# Altium schematic symbol library COMM_SCHLIB.SchLib: 31 symbols
Pins are listed as number, name and electrical type; pins without a type are passive.

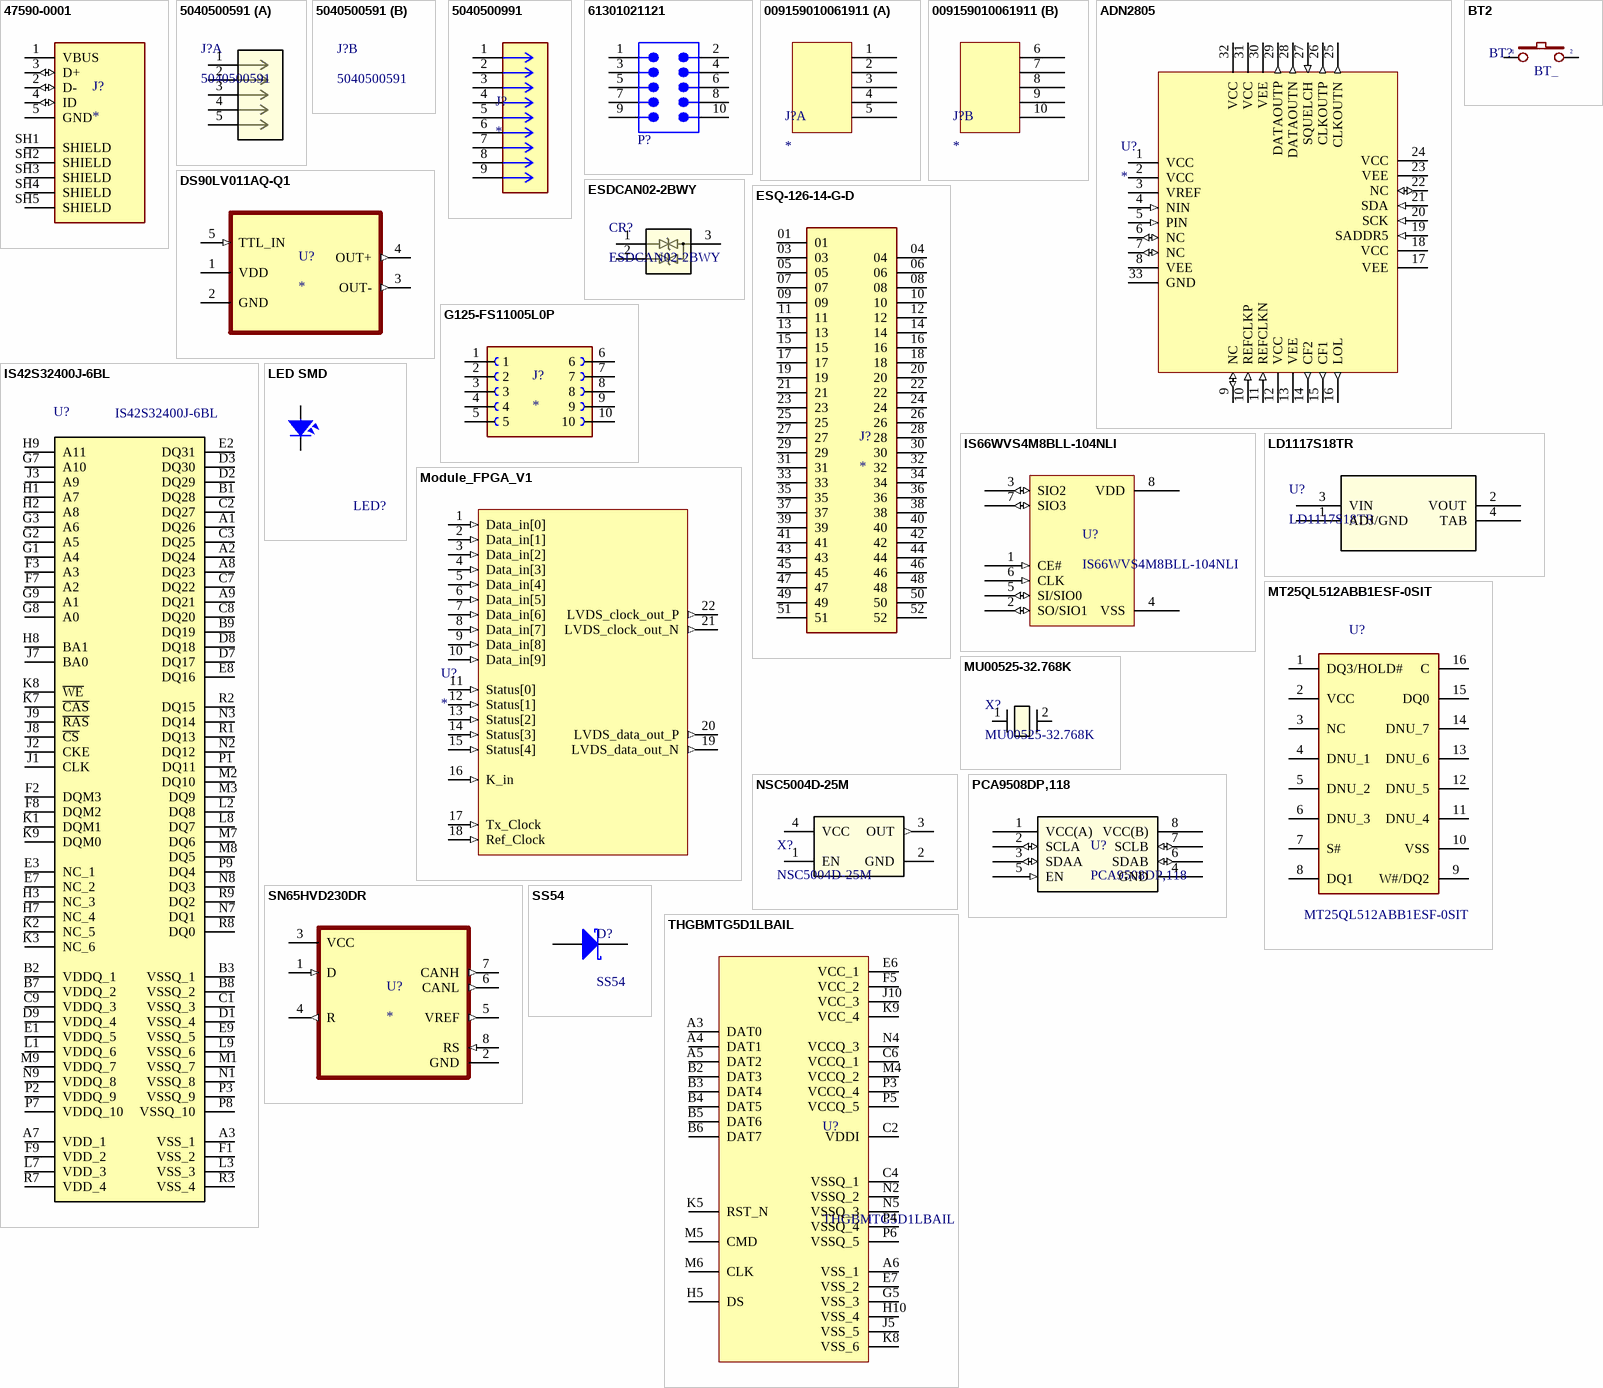
[diagram p0: symbols 47590-0001 to THGBMTG5D1LBAIL]

## 47590-0001
designator J?
RightAngle SMT TypeABVersion 2.0 Micro USB Conn Skt,30Vac,1.8A 47650 MICRO-USB | Molex Incorporated 47590-0001; SnapEDA_Link: https://www.snapeda.com/parts/47590-0001/Molex/view-part/?ref=snap; Package: None; Value: *; MF: Molex; MP: 47590-0001; Check_prices: https://www.snapeda.com/parts/47590-0001/Molex/view-part/?ref=eda
footprint MOLEX_47590-0001
pins: 1 VBUS (power), 2 D- (io), 3 D+ (io), 4 ID (io), 5 GND (power), SH1 SHIELD, SH2 SHIELD, SH3 SHIELD, SH4 SHIELD, SH5 SHIELD

## 5040500591
designator J?
1.50mm Pitch, Pico-Lock PCB Header, Single Row, Right-Angle, Surface Mount, Gold (Au) Plating, Positive Lock, 5 Circuits, Tape and Reel; Manufacturer_Name: Molex Connector Corporation; Copyright: Copyright (C) 2025 Ultra Librarian. All rights reserved.; Manufacturer_Part_Number: 5040500591; RefDes: RefDes; Type: Type
footprint CONN_5040500591_MOL
part A pins: 1, 2, 3, 4, 5

## 5040500991
designator J?
Connector Header Surface Mount, Right Angle 9 position 0.059" (1.50mm)
footprint 5040500991
pins: 1, 2, 3, 4, 5, 6, 7, 8, 9

## 61301021121
designator P?  (value not drawn)
WR-PHD Pin Header, THT, Vertical, pitch 2.54mm, 2 Row, 10P; Manufacturer: Wurth Elektronik; Contact Resistance: 20mOhm; Rated Current: 3A; Working Voltage: 250V; Withstanding Voltage: 500V; Manufacturer Part Number: 61301021121; Category: Board-to-Board Connectors; Match Code: WR-PHD; ComponentLink1Description: Website Link; ComponentLink1URL: https://www.we-online.com/redexpert/article/61301021121?ad; ComponentLink2Description: Datasheet Link; ComponentLink2URL: https://www.we-online.com/redexpert/spec/61301021121?ad; Mount: Through Hole; Operating Temperature Max: 105°C; Operating Temperature Min: -40°C; Packaging: Bag; Gender: Pin Header; Number of Pins: 10; Number of Rows: 2; Orientation: Vertical; Pitch: 2.54mm
footprint 61301021121
pins: 1, 2, 3, 4, 5, 6, 7, 8, 9, 10

## 009159010061911
designator J?
pads for STLink V3 minie
footprint 009159010061911
part A pins: 1, 2, 3, 4, 5
part B pins: 6, 7, 8, 9, 10

## ADN2805
designator U?
1.25 Gbps Clock and Data Recovery IC
footprint ADN2805
pins: 1 VCC (power), 2 VCC (power), 3 VREF (power), 4 NIN (in), 5 PIN (in), 6 NC (io), 7 NC (io), 8 VEE (power), 9 NC (io), 10 REFCLKP (in), 11 REFCLKN (in), 12 VCC (power), 13 VEE (power), 14 CF2 (out), 15 CF1 (out), 16 LOL (out), 17 VEE (power), 18 VCC (power), 19 SADDR5 (in), 20 SCK (in), 21 SDA (in), 22 NC (io), 23 VEE (power), 24 VCC (power), 25 CLKOUTN (out), 26 CLKOUTP (out), 27 SQUELCH (in), 28 DATAOUTN (out), 29 DATAOUTP (out), 30 VEE (power), 31 VCC (power), 32 VCC (power), 33 GND (power)

## BT2
designator BT?, comment BT_
Switch button 2 pin; Value: SW chip 2 pin
footprint SW2-SMD
pins: 1, 2

## DS90LV011AQ-Q1
designator U?
Automotive LVDS Differential Driver
footprint DS90LV011AQ-Q1
pins: 1 VDD (power), 2 GND (power), 3 OUT- (out), 4 OUT+ (out), 5 TTL_IN (in)

## ESDCAN02-2BWY
designator CR?
Automotive dual-line TVS in SOT323-3L for CAN bus (12 V system); Manufacturer_Name: STMicroelectronics; Copyright: Copyright (C) 2025 Ultra Librarian. All rights reserved.; Manufacturer_Part_Number: ESDCAN02-2BWY; RefDes: RefDes; Type: Type
footprint SOT323-3L_STM
pins: 1, 2, 3

## ESQ-126-14-G-D
designator J?
PC / 104 Connectors Elevated Socket Strip
footprint ESQ-126-14-G-D
pins: 01, 03, 04, 05, 06, 07, 08, 09, 10, 11, 12, 13, 14, 15, 16, 17, 18, 19, 20, 21, 22, 23, 24, 25, 26, 27, 28, 29, 30, 31, 32, 33, 34, 35, 36, 37, 38, 39, 40, 41, 42, 43, 44, 45, 46, 47, 48, 49, 50, 51, 52

## G125-FS11005L0P
designator J?
Header 10p
footprint G125-FS11005L0P
pins: 1, 2, 3, 4, 5, 6, 7, 8, 9, 10

## IS42S32400J-6BL
designator U?
DRAM 128M, 3.3V, SDRAM, 4Mx32, 166Mhz, 90 ball BGA (8mmx13mm) RoHS; Manufacturer_Name: Integrated Silicon Solution Inc.; Geometry.Height: 1.2mm; Manufacturer_Part_Number: IS42S32400J-6BL; Mouser Part Number: *; Mouser Price/Stock: *; Arrow Part Number: IS42S32400J-6BL; Arrow Price/Stock: https://www.arrow.com/en/products/is42s32400j-6bl/integrated-silicon-solution-inc?utm_currency=USD&region=nac; Datasheet Link: https://www.issi.com/WW/pdf/42-45S32400J.pdf
footprint BGA90C80P9X15_800X1300X120
pins: A1 DQ26, A2 DQ24, A3 VSS_1, A7 VDD_1, A8 DQ23, A9 DQ21, B1 DQ28, B2 VDDQ_1, B3 VSSQ_1, B7 VDDQ_2, B8 VSSQ_2, B9 DQ19, C1 VSSQ_3, C2 DQ27, C3 DQ25, C7 DQ22, C8 DQ20, C9 VDDQ_3, D1 VSSQ_4, D2 DQ29, D3 DQ30, D7 DQ17, D8 DQ18, D9 VDDQ_4, E1 VDDQ_5, E2 DQ31, E3 NC_1, E7 NC_2, E8 DQ16, E9 VSSQ_5, F1 VSS_2, F2 DQM3, F3 A3, F7 A2, F8 DQM2, F9 VDD_2, G1 A4, G2 A5, G3 A6, G7 A10, G8 A0, G9 A1, H1 A7, H2 A8, H3 NC_3, H7 NC_4, H8 BA1, H9 A11, J1 CLK, J2 CKE, J3 A9, J7 BA0, J8 ~{CS}, J9 ~{RAS}, K1 DQM1, K2 NC_5, K3 NC_6, K7 ~{CAS}, K8 ~{WE}, K9 DQM0, L1 VDDQ_6, L2 DQ8, L3 VSS_3, L7 VDD_3, L8 DQ7, L9 VSSQ_6, M1 VSSQ_7, M2 DQ10, M3 DQ9, M7 DQ6, M8 DQ5, M9 VDDQ_7, N1 VSSQ_8, N2 DQ12, N3 DQ14, N7 DQ1, N8 DQ3, N9 VDDQ_8, P1 DQ11, P2 VDDQ_9, P3 VSSQ_9, P7 VDDQ_10, P8 VSSQ_10, P9 DQ4, R1 DQ13, R2 DQ15, R3 VSS_4, R7 VDD_4, R8 DQ0, R9 DQ2

## IS66WVS4M8BLL-104NLI
designator U?
No Description Available; Manufacturer_Name: ISSI; Type: Memory; Copyright: Copyright (C) 2025 Ultra Librarian. All rights reserved.; Manufacturer_Part_Number: IS66WVS4M8BLL-104NLI; RefDes: RefDes
footprint SOIC8_150MIL_N_ISI
pins: 1 CE# (in), 2 SO/SIO1 (io), 3 SIO2 (io), 4 VSS (power), 5 SI/SIO0 (io), 6 CLK (in), 7 SIO3 (io), 8 VDD (power)

## LD1117S18TR
designator U?
Adjustable and fixed low drop positive voltage regulator; Manufacturer_Name: STMicroelectronics; Copyright: Copyright (C) 2025 Ultra Librarian. All rights reserved.; Manufacturer_Part_Number: LD1117S18TR; Datasheet: https://www.st.com/resource/en/datasheet/ld1117.pdf; RefDes: RefDes; Type: Type
footprint SOT-223_STM
pins: 1 ADJ/GND (power), 2 VOUT (power), 3 VIN (power), 4 TAB (power)

## LED SMD
designator LED?, comment LED  (value not drawn)
Value: LED 3 - 5 ly 2 Colour
footprint LED_C_2012X65_RED (Chip Resistor, 2-Leads, Body 2.00x1.25mm, IPC High Density)
footprint LED_C_2012X65_GREEN (Chip Resistor, 2-Leads, Body 2.00x1.25mm, IPC High Density)
footprint LED_C_2012X65_BLUE (Chip Resistor, 2-Leads, Body 2.00x1.25mm, IPC High Density)
footprint LED_0603
pins: 1, 2

## Module_FPGA_V1
designator U?
footprint MODULE_FPGA
pins: 1 Data_in[0] (in), 2 Data_in[1] (in), 3 Data_in[2] (in), 4 Data_in[3] (in), 5 Data_in[4] (in), 6 Data_in[5] (in), 7 Data_in[6] (in), 8 Data_in[7] (in), 9 Data_in[8] (in), 10 Data_in[9] (in), 11 Status[0] (in), 12 Status[1] (in), 13 Status[2] (in), 14 Status[3] (in), 15 Status[4] (in), 16 K_in (in), 17 Tx_Clock (in), 18 Ref_Clock (in), 19 LVDS_data_out_N (out), 20 LVDS_data_out_P (out), 21 LVDS_clock_out_N (out), 22 LVDS_clock_out_P (out)

## MT25QL512ABB1ESF-0SIT
designator U?
IC FLASH 512MBIT 133MHZ 16SO; Manufacturer_Name: Micron; Manufacturer_Part_Number: MT25QL512ABB8ESF-0SIT; Geometry.Height: 2.65mm; Mouser Part Number: 340-278183-TRAY; Mouser Price/Stock: https://www.mouser.co.uk/ProductDetail/Micron/MT25QL512ABB8ESF-0SIT?qs=rrS6PyfT74e8sADX0P8kAw%3D%3D; Arrow Part Number: MT25QL512ABB8ESF-0SIT; Arrow Price/Stock: https://www.arrow.com/en/products/mt25ql512abb8esf-0sit/micron-technology?utm_currency=USD&region=nac; Datasheet Link: https://datasheet.datasheetarchive.com/originals/distributors/DKDS42/DSANUWW0045437.pdf
footprint SOIC127P1032X265-16N
pins: 1 DQ3/HOLD#, 2 VCC, 3 NC, 4 DNU_1, 5 DNU_2, 6 DNU_3, 7 S#, 8 DQ1, 9 W#/DQ2, 10 VSS, 11 DNU_4, 12 DNU_5, 13 DNU_6, 14 DNU_7, 15 DQ0, 16 C

## MU00525-32.768K
designator X?
32.768 kHz ±20ppm Crystal 12.5pF 70 kOhms 2-SMD, No Lead; Manufacturer_Name: NDK; Type: Crystals; Copyright: Copyright (C) 2025 Ultra Librarian. All rights reserved.; Manufacturer_Part_Number: MU00525-32.768K
footprint XTAL_MU00525_NDK
pins: 1, 2

## NSC5004D-25M
designator X?
25 MHz XO (Standard) CMOS Oscillator 3.3V Standby (Power Down) 4-SMD, No Lead; Manufacturer_Name: NDK; Manufacturer_Part_Number: NSC5004A-25M; Type: Oscillators; Copyright: Copyright (C) 2025 Ultra Librarian. All rights reserved.; RefDes: RefDes
footprint NSC5004D-25M (25 MHz XO (Standard) CMOS Oscillator 3.3V Standby (Power Down) 4-SMD, No Lead)
pins: 1 EN, 2 GND (power), 3 OUT (out), 4 VCC (power)

## PCA9508DP,118
designator U?
IC REDRIVER I2C HOTSWAP 8TSSOP; Manufacturer_Name: NXP; Copyright: Copyright (C) 2025 Ultra Librarian. All rights reserved.; Manufacturer_Part_Number: PCA9508DP,118; RefDes: RefDes; Type: Type
footprint TSSOP8_SOT505-1_NXP
pins: 1 VCC(A) (power), 2 SCLA (io), 3 SDAA (io), 4 GND (power), 5 EN (in), 6 SDAB (io), 7 SCLB (io), 8 VCC(B) (power)

## SN65HVD230DR
designator U?
3.3 V CAN Transceiver with Standby Mode; MF: Texas Instruments; MP: SN65HVD230DR; SnapEDA_Link: https://www.snapeda.com/parts/SN65HVD230DR/Texas+Instruments/view-part/?ref=snap; Package: SOIC-8 Texas Instruments; Value: *; Check_prices: https://www.snapeda.com/parts/SN65HVD230DR/Texas+Instruments/view-part/?ref=eda
footprint SOIC127P599X175-8N
pins: 1 D (in), 2 GND (power), 3 VCC (power), 4 R (out), 5 VREF (out), 6 CANL (out), 7 CANH (out), 8 RS (in)

## SS54
designator D?
DIODE SCHOTTKY 40V 5A SMA; MPN: SS34; Solder: SMT; Value: SS34; MFR: *
footprint DO-214AC_SMA (Molded Diode, 2-Leads, Body 5.20x2.61mm, IPC Medium Density)
pins: 1 A, 2 K

## THGBMTG5D1LBAIL
designator U?
NAND Flash Serial e-MMC 3.3V 32G-bit 32G/8G/4G x 1/4-bit/8-bit 13.7ns 153-Pin WFBGA; Manufacturer_Name: KIOXIA Corporation; Geometry.Height: 0.8mm; Manufacturer_Part_Number: THGBMTG5D1LBAIL; Mouser Part Number: 757-THGBMTG5D1LBAIL; Mouser Price/Stock: https://www.mouser.co.uk/ProductDetail/Kioxia-America/THGBMTG5D1LBAIL?qs=Znm5pLBrcAKPRFVhV%252B0AbQ%3D%3D; Arrow Part Number: THGBMTG5D1LBAIL; Arrow Price/Stock: null?region=nac; Datasheet Link: https://static6.arrow.com/aropdfconversion/5b79d7e5222d5200711a0ed1082b7aa51b6d9eb4/xia_thgbmtg5d1lbail15nm4gbe-mmcver5.0_e_rev.1.0_20211007.pdf
footprint BGA153C50P14X14_1150X1300X80
pins: A3 DAT0, A4 DAT1, A5 DAT2, A6 VSS_1, B2 DAT3, B3 DAT4, B4 DAT5, B5 DAT6, B6 DAT7, C2 VDDI, C4 VSSQ_1, C6 VCCQ_1, E6 VCC_1, E7 VSS_2, F5 VCC_2, G5 VSS_3, H5 DS, H10 VSS_4, J5 VSS_5, J10 VCC_3, K5 RST_N, K8 VSS_6, K9 VCC_4, M4 VCCQ_2, M5 CMD, M6 CLK, N2 VSSQ_2, N4 VCCQ_3, N5 VSSQ_3, P3 VCCQ_4, P4 VSSQ_4, P5 VCCQ_5, P6 VSSQ_5

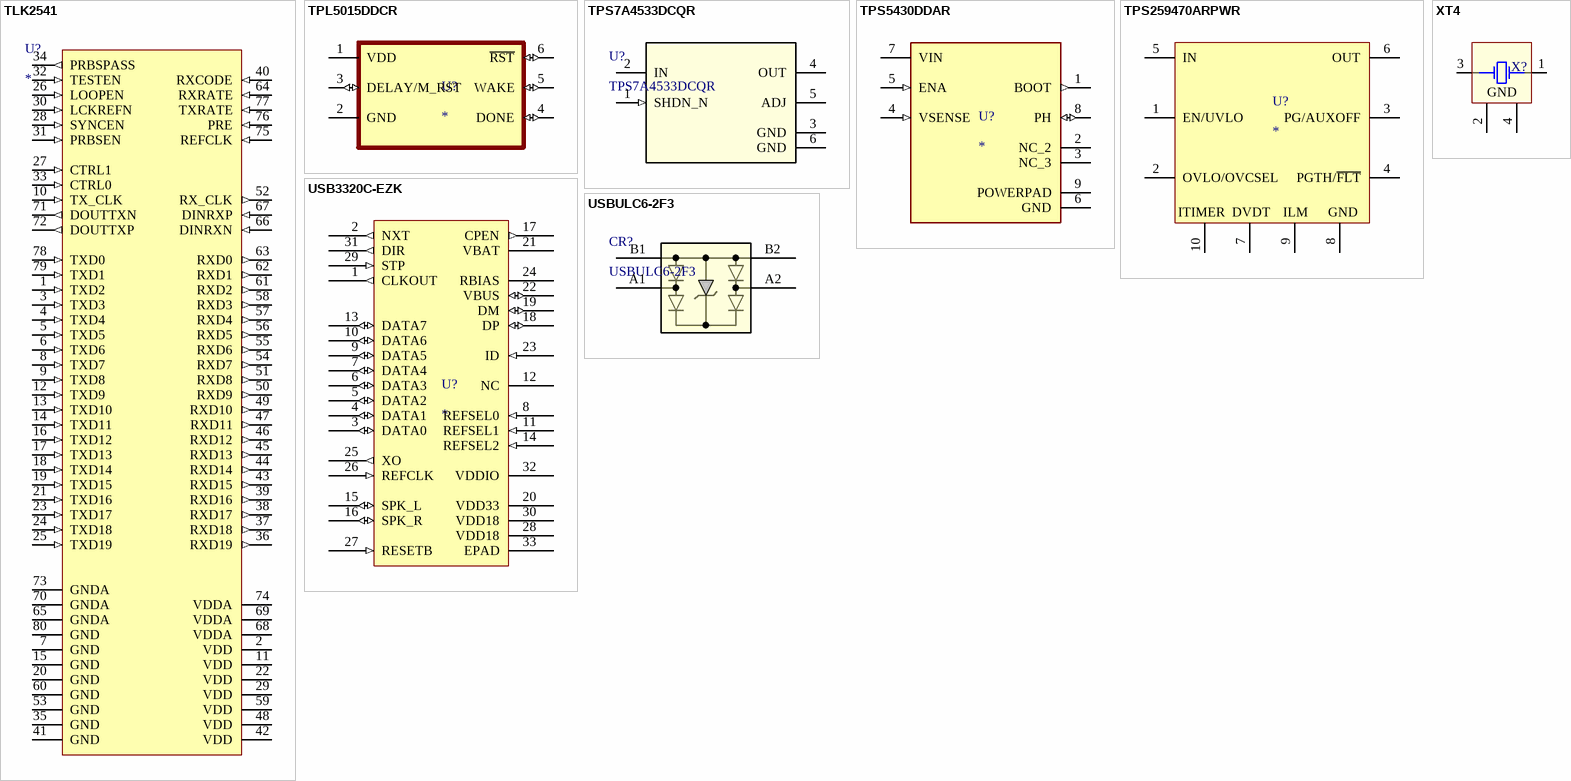
[diagram p1: symbols TLK2541 to XT4]

## TLK2541
designator U?
1 TO2.6 GBPS TRANSCEIVER
footprint TLK2541
pins: 1 TXD2 (in), 2 VDD (power), 3 TXD3 (in), 4 TXD4 (in), 5 TXD5 (in), 6 TXD6 (in), 7 GND (power), 8 TXD7 (in), 9 TXD8 (in), 10 TX_CLK (in), 11 VDD (power), 12 TXD9 (in), 13 TXD10 (in), 14 TXD11 (in), 15 GND (power), 16 TXD12 (in), 17 TXD13 (in), 18 TXD14 (in), 19 TXD15 (in), 20 GND (power), 21 TXD16 (in), 22 VDD (power), 23 TXD17 (in), 24 TXD18 (in), 25 TXD19 (in), 26 LOOPEN (in), 27 CTRL1 (in), 28 SYNCEN (in), 29 VDD (power), 30 LCKREFN (in), 31 PRBSEN (in), 32 TESTEN (in), 33 CTRL0 (in), 34 PRBSPASS (out), 35 GND (power), 36 RXD19 (out), 37 RXD18 (out), 38 RXD17 (out), 39 RXD16 (out), 40 RXCODE (in), 41 GND (power), 42 VDD (power), 43 RXD15 (out), 44 RXD14 (out), 45 RXD13 (out), 46 RXD12 (out), 47 RXD11 (out), 48 VDD (power), 49 RXD10 (out), 50 RXD9 (out), 51 RXD8 (out), 52 RX_CLK (out), 53 GND (power), 54 RXD7 (out), 55 RXD6 (out), 56 RXD5 (out), 57 RXD4 (out), 58 RXD3 (out), 59 VDD (power), 60 GND (power), 61 RXD2 (out), 62 RXD1 (out), 63 RXD0 (out), 64 RXRATE (in), 65 GNDA (power), 66 DINRXN (in), 67 DINRXP (in), 68 VDDA (power), 69 VDDA (power), 70 GNDA (power), 71 DOUTTXN (out), 72 DOUTTXP (out), 73 GNDA (power), 74 VDDA (power), 75 REFCLK (in), 76 PRE (in), 77 TXRATE (in), 78 TXD0 (in), 79 TXD1 (in), 80 GND (power)

## TPL5015DDCR
designator U?
OSC PROG TIMER TSOT23-6
footprint TPL5010DDCR
pins: 1 VDD (power), 2 GND (power), 3 DELAY/M_RST (io), 4 DONE (io), 5 WAKE (io), 6 ~{RST} (io)

## TPS7A4533DCQR
designator U?
1.5-A, 20-V, ultra-low-dropout voltage regulator with reverse current protection & enable 6-SOT-223 -40 to 125; Manufacturer_Name: Texas Instruments; TYPE: TYPE; RefDes: RefDes; Copyright: Copyright (C) 2025 Ultra Librarian. All rights reserved.; Manufacturer_Part_Number: TPS7A4533DCQR; Datasheet: https://www.ti.com/lit/gpn/tps7a45
footprint DCQ0006A-MFG
pins: 1 SHDN_N (in), 2 IN (power), 3 GND (power), 4 OUT (power), 5 ADJ, 6 GND (power)

## TPS5430DDAR
designator U?
5.5V to 36V Input, 3A, 500kHz Step-Down Converter; MF: Texas Instruments; MP: TPS5430DDAR; Package: HSOIC-8 Texas Instruments; Check_prices: https://www.snapeda.com/parts/TPS5430DDAR/Texas+Instruments/view-part/?ref=eda; Value: *; Purchase-URL: https://pricing.snapeda.com/search/part/TPS5430DDAR/?ref=eda; Availability: In Stock; SnapEDA_Link: https://www.snapeda.com/parts/TPS5430DDAR/Texas+Instruments/view-part/?ref=snap; Price: None
footprint CONV_TPS5430DDAR
pins: 1 BOOT (out), 2 NC_2, 3 NC_3, 4 VSENSE (in), 5 ENA (in), 6 GND (power), 7 VIN (power), 8 PH (io), 9 POWERPAD (power)

## TPS259470ARPWR
designator U?
footprint VQFN-HR-10
pins: 1 EN/UVLO, 2 OVLO/OVCSEL, 3 PG/AUXOFF, 4 PGTH/~{FLT}, 5 IN, 6 OUT, 7 DVDT, 8 GND, 9 ILM, 10 ITIMER

## USB3320C-EZK
designator U?
IC TRANSCEIVER HALF 1/1 32QFN
footprint QFN32_5X5MC_MCH
pins: 1 CLKOUT (out), 2 NXT (out), 3 DATA0 (io), 4 DATA1 (io), 5 DATA2 (io), 6 DATA3 (io), 7 DATA4 (io), 8 REFSEL0 (in), 9 DATA5 (io), 10 DATA6 (io), 11 REFSEL1 (in), 12 NC, 13 DATA7 (io), 14 REFSEL2 (in), 15 SPK_L (io), 16 SPK_R (io), 17 CPEN (out), 18 DP (io), 19 DM (io), 20 VDD33 (power), 21 VBAT (power), 22 VBUS (io), 23 ID (in), 24 RBIAS, 25 XO (out), 26 REFCLK (in), 27 RESETB (in), 28 VDD18 (power), 29 STP (in), 30 VDD18 (power), 31 DIR (out), 32 VDDIO (power), 33 EPAD

## USBULC6-2F3
designator CR?
No Description Available; Manufacturer_Name: STMicroelectronics; Copyright: Copyright (C) 2025 Ultra Librarian. All rights reserved.; Manufacturer_Part_Number: USBULC6-2F3; RefDes: RefDes; Type: Type
footprint FLIPCHIP4_USBUL_STM
pins: A1, A2, B1, B2

## XT4
designator X?
Crystal, 16 MHz, -30 to 85 degC, 3.2 x 2.5 x 0.9 mm SMD; Value: 4Mhz
footprint XTAL_ECS-250-12-33Q-JES-TR
pins: 1 XTAL, 2 GND (power), 3 XTAL, 4 GND (power)